# Altium schematic symbol library CHOKE,CM,2LN,1mH,10A,Thru.SchLib: 1 symbol
Pins are listed as number, name and electrical type; pins without a type are passive.

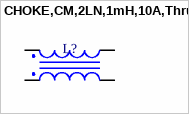
[diagram p0: symbol CHOKE,CM,2LN,1mH,10A,Thru]

## CHOKE,CM,2LN,1mH,10A,Thru
designator L?
pins: 1, 2, 3, 4